# Altium footprint library LPSON_CON.PcbLib: 86 footprints (part 3 of 6)
Each footprint in its own frame and in the unit in brackets; x right, y up, seen from the top. Pads: shape width x height; smd on the part's side, far side on the other; paste and mask are expansions set on the pad; w line width, h text height; cw(c..) or ccw(c..) is an arc to the next point about the centre after c.
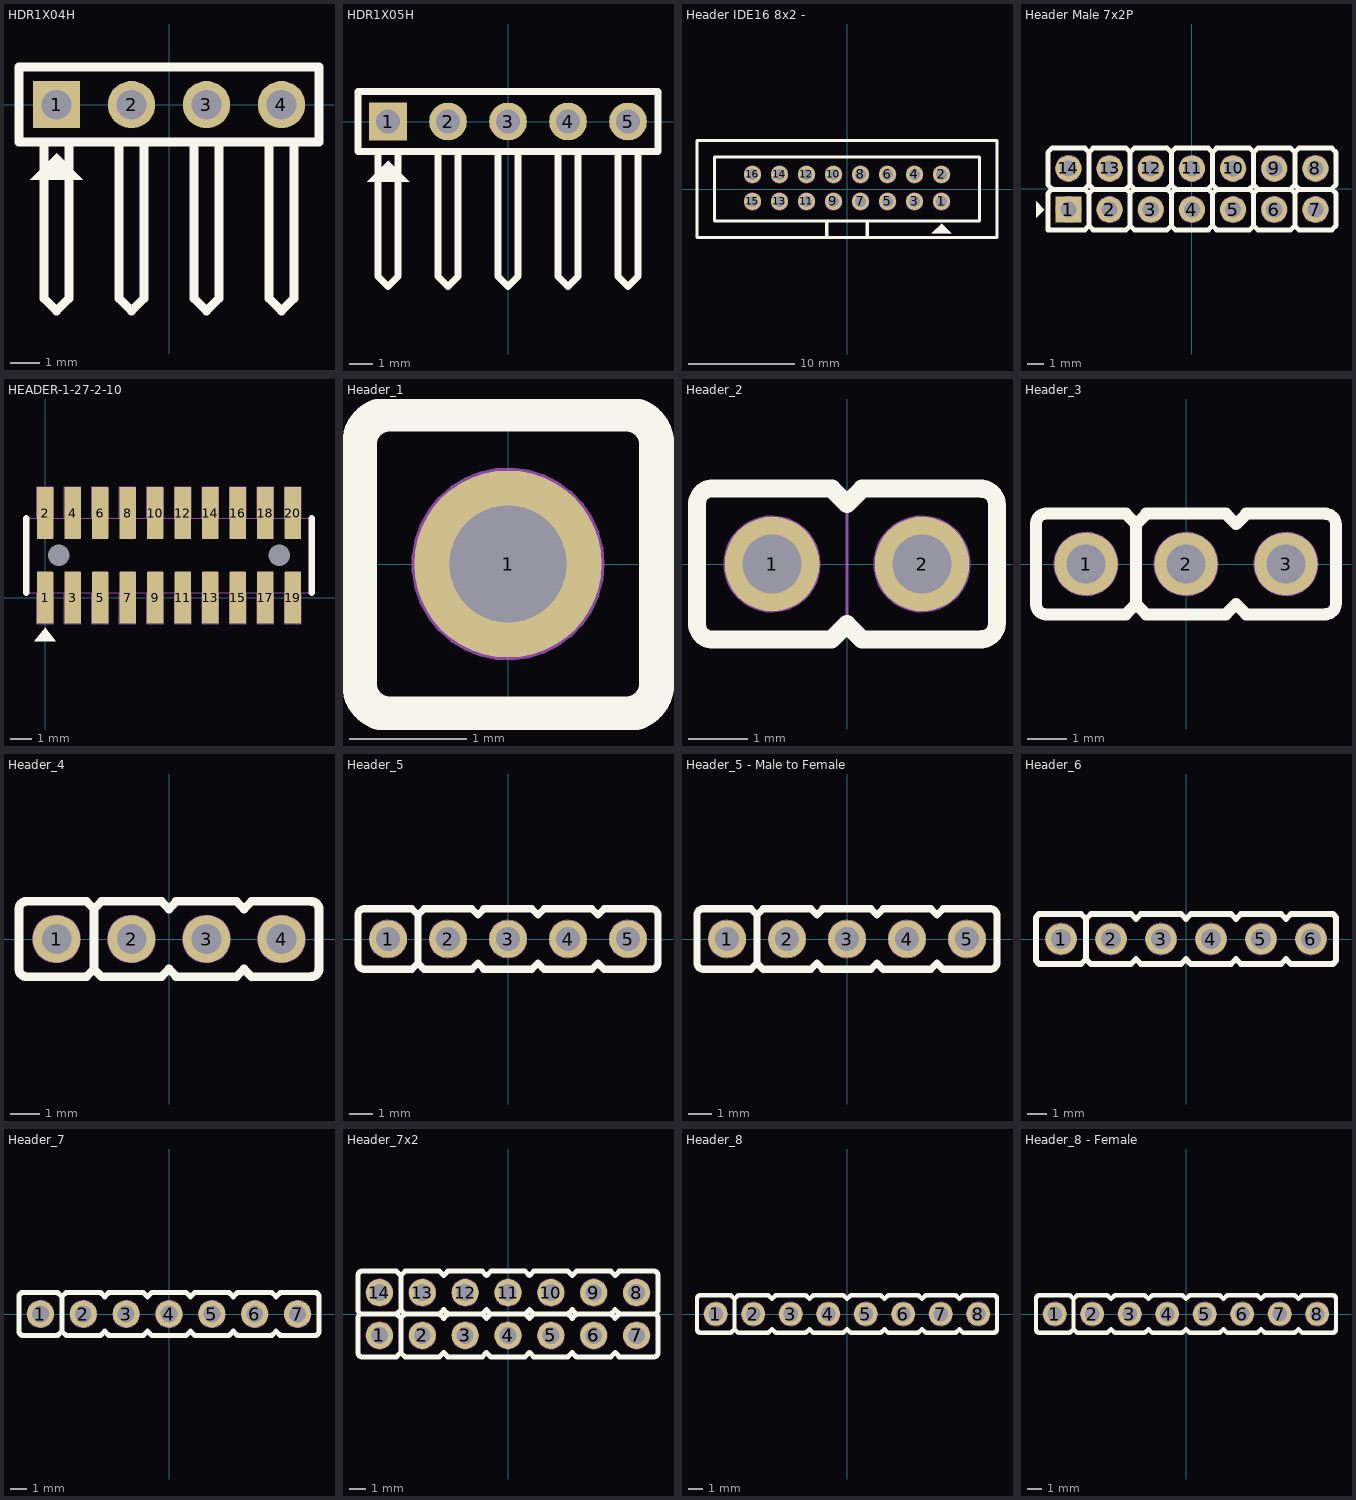
[diagram p2: the footprints below, top view; thin cyan lines are the x and y axes]

## HDR1X04H [mm] "Connector; Header; 4 Position; Right Angle"
height 6.5
pads (4):
  rect 1.6x1.6 hole 1 mask+0.1: 1(-3.81,0)
  round 1.6 hole 1 mask+0.1: 2(-1.27,0) 3(1.27,0) 4(3.81,0)
Top Overlay:
  region: -3.81,-1.651 -4.699,-2.54 -2.921,-2.54
  lines w0.3: -4.233,-1.27 -4.233,-6.562 -3.81,-6.985 -3.387,-6.562 -3.387,-1.27 ; -1.693,-1.27 -1.693,-6.562 -1.27,-6.985 -0.847,-6.562 -0.847,-1.27 ; 0.847,-1.27 0.847,-6.562 1.27,-6.985 1.693,-6.562 1.693,-1.27 ; 3.387,-1.27 3.387,-6.562 3.81,-6.985 4.233,-6.562 4.233,-1.27 ; -5.08,-1.27 -5.08,1.27 5.08,1.27 5.08,-1.27 -5.08,-1.27
Mechanical 1:
  region: -3.81,-1.651 -4.699,-2.54 -2.921,-2.54
  lines w0.05: -4.233,-1.27 -4.233,-6.562 -3.81,-6.985 -3.387,-6.562 -3.387,-1.27 ; -1.693,-1.27 -1.693,-6.562 -1.27,-6.985 -0.847,-6.562 -0.847,-1.27 ; 0.847,-1.27 0.847,-6.562 1.27,-6.985 1.693,-6.562 1.693,-1.27 ; 3.387,-1.27 3.387,-6.562 3.81,-6.985 4.233,-6.562 4.233,-1.27 ; -5.08,-1.27 5.08,-1.27 5.08,1.27 -5.08,1.27 -5.08,-1.27
3D body "User Library-0_1inch pin strip right angle.step": height 4.33, standoff -3, extent -5.08,-7 5.08,1.27

## HDR1X05H [mm] "Connector; Header; 5 Position; Right Angle"
height 6.5
pads (5):
  rect 1.6x1.6 hole 1 mask+0.1: 1(-5.08,0)
  round 1.6 hole 1 mask+0.1: 2(-2.54,0) 3(0,0) 4(2.54,0) 5(5.08,0)
Top Overlay:
  region: -5.08,-1.651 -5.969,-2.54 -4.191,-2.54
  lines w0.3: -5.503,-1.27 -5.503,-6.562 -5.08,-6.985 -4.657,-6.562 -4.657,-1.27 ; -2.963,-1.27 -2.963,-6.562 -2.54,-6.985 -2.117,-6.562 -2.117,-1.27 ; -0.423,-1.27 -0.423,-6.562 0,-6.985 0.423,-6.562 0.423,-1.27 ; 2.117,-1.27 2.117,-6.562 2.54,-6.985 2.963,-6.562 2.963,-1.27 ; 4.657,-1.27 4.657,-6.562 5.08,-6.985 5.503,-6.562 5.503,-1.27 ; -6.35,-1.27 6.35,-1.27 6.35,1.27 -6.35,1.27 -6.35,-1.27
Mechanical 1:
  region: -5.08,-1.651 -5.969,-2.54 -4.191,-2.54
  lines w0.05: -5.503,-1.27 -5.503,-6.562 -5.08,-6.985 -4.657,-6.562 -4.657,-1.27 ; -2.963,-1.27 -2.963,-6.562 -2.54,-6.985 -2.117,-6.562 -2.117,-1.27 ; -0.423,-1.27 -0.423,-6.562 0,-6.985 0.423,-6.562 0.423,-1.27 ; 2.117,-1.27 2.117,-6.562 2.54,-6.985 2.963,-6.562 2.963,-1.27 ; 4.657,-1.27 4.657,-6.562 5.08,-6.985 5.503,-6.562 5.503,-1.27 ; -6.35,-1.27 -6.35,1.27 6.35,1.27 6.35,-1.27 -6.35,-1.27
3D body "SW3dPS-0.1inch pin strip right angle.STEP": height 4.33, standoff -3, extent -6.35,-7 6.35,1.27

## Header IDE16 8x2 - [mm] "IDE16 Ð?c Th?ng 2.54MM"
height 9
pads (16):
  round 1.6 hole 1 mask+0.1: 1(8.89,-1.17) 2(8.89,1.37) 3(6.35,-1.17) 4(6.35,1.37) 5(3.81,-1.17) 6(3.81,1.37) 7(1.27,-1.17) 8(1.27,1.37) 9(-1.27,-1.17) 10(-1.27,1.37) 11(-3.81,-1.17) 12(-3.81,1.37) 13(-6.35,-1.17) 14(-6.35,1.37) 15(-8.89,-1.17) 16(-8.89,1.37)
Top Overlay:
  region: 8.89,-3.27 7.99,-4.17 9.79,-4.17
  lines w0.3: -1.9,-3 -1.9,-4.55 1.9,-4.55 1.9,-3 ; -14.11,-4.55 14.11,-4.55 14.11,4.55 -14.11,4.55 -14.11,-4.55 ; -12.46,-3 -12.46,3 12.46,3 12.46,-3 -12.46,-3
Mechanical 1:
  lines w0.05: -12.46,-3 12.46,-3 12.46,3 -12.46,3 -12.46,-3
Mechanical 2:
  circle w0.05: c-6.35,1.37 r0.8
  circle w0.05: c8.89,1.37 r0.8
  circle w0.05: c8.89,1.37 r0.8
  circle w0.05: c1.27,1.37 r0.8
  circle w0.05: c-8.89,1.37 r0.8
  circle w0.05: c-1.27,1.37 r0.8
  circle w0.05: c-3.81,1.37 r0.8
  circle w0.05: c6.35,1.37 r0.8
  circle w0.05: c3.81,1.37 r0.8
  circle w0.05: c3.81,-1.17 r0.8
  circle w0.05: c6.35,-1.17 r0.8
  circle w0.05: c-3.81,-1.17 r0.8
  circle w0.05: c-1.27,-1.17 r0.8
  circle w0.05: c-8.89,-1.17 r0.8
  circle w0.05: c1.27,-1.17 r0.8
  circle w0.05: c8.89,-1.17 r0.8
  circle w0.05: c8.89,-1.17 r0.8
  circle w0.05: c-6.35,-1.17 r0.8
  region: 8.89,-3.27 7.99,-4.17 9.79,-4.17
  lines w0.05: -1.9,-3.87 -1.9,-3 -1.9,-4.55 1.9,-4.55 1.9,-3 1.9,-3.87 ; -14.11,-4.55 14.11,-4.55 14.11,4.55 -14.11,4.55 -14.11,-4.55 ; -12.46,-3 -12.46,3 12.46,3 12.46,-3 -12.46,-3
  text "1" at 8.7,-1.7 h1.2
  text "16" at -9.3,0.9 h1.2
  text "15" at -9.4,-1.7 h1.2
  text "2" at 8.7,0.9 h1.2
3D body "2452410_1761681-6.stp": height 9, standoff -3.12, extent -13.97,-4.545 13.97,4.675

## Header Male 7x2P [mm] "Header Male 7x2P, 2.54 Pitch, THT"
pads (14):
  rect 1.6x1.6 hole 1 mask+0.1: 1(-7.62,-1.27)
  round 1.6 hole 1 mask+0.1: 2(-5.08,-1.27) 3(-2.54,-1.27) 4(0,-1.27) 5(2.54,-1.27) 6(5.08,-1.27) 7(7.62,-1.27) 8(7.62,1.27) 9(5.08,1.27) 10(2.54,1.27) 11(0,1.27) 12(-2.54,1.27) 13(-5.08,1.27) 14(-7.62,1.27)
Top Overlay:
  region: -9.12,-1.27 -9.62,-0.77 -9.62,-1.77
  lines w0.3: -8.64,0.02 -8.89,0.27 -8.89,2.27 -8.64,2.52 -6.6,2.52 -6.35,2.27 ; -6.6,0.02 -6.35,0.27 ; -6.1,0.02 -6.35,0.27 ; -4.06,0.02 -3.81,0.27 ; -3.56,0.02 -3.81,0.27 ; -1.52,0.02 -1.27,0.27 ; -1.02,0.02 -1.27,0.27 ; 1.02,0.02 1.27,0.27 ; 1.52,0.02 1.27,0.27 ; 3.56,0.02 3.81,0.27 ; 4.06,0.02 3.81,0.27 ; 6.1,0.02 6.35,0.27 ; 6.6,0.02 6.35,0.27 ; 8.64,0.02 8.89,0.27 8.89,2.27 8.64,2.52 6.6,2.52 6.35,2.27 ; -6.35,-2.27 -6.6,-2.52 -8.89,-2.52 -8.89,-0.27 -8.64,-0.02 -6.6,-0.02 -6.35,-0.27 ; -6.35,-2.27 -6.1,-2.52 -4.06,-2.52 -3.81,-2.27 ; -6.35,-2.27 -6.35,-0.27 ; -6.35,-0.27 -6.1,-0.02 -4.06,-0.02 -3.81,-0.27 ; -6.35,0.27 -6.35,2.27 ; -6.35,2.27 -6.1,2.52 -4.06,2.52 -3.81,2.27 ; -3.81,-2.27 -3.56,-2.52 -1.52,-2.52 -1.27,-2.27 ; -3.81,-2.27 -3.81,-0.27 ; -3.81,-0.27 -3.56,-0.02 -1.52,-0.02 -1.27,-0.27 ; -3.81,0.27 -3.81,2.27 ; -3.81,2.27 -3.56,2.52 -1.52,2.52 -1.27,2.27 ; -1.27,-2.27 -1.02,-2.52 1.02,-2.52 1.27,-2.27 ; -1.27,-2.27 -1.27,-0.27 ; -1.27,-0.27 -1.02,-0.02 1.02,-0.02 1.27,-0.27 ; -1.27,0.27 -1.27,2.27 ; -1.27,2.27 -1.02,2.52 1.02,2.52 1.27,2.27 ; 1.27,-2.27 1.52,-2.52 3.56,-2.52 3.81,-2.27 ; 1.27,-2.27 1.27,-0.27 ; 1.27,-0.27 1.52,-0.02 3.56,-0.02 3.81,-0.27 ; 1.27,0.27 1.27,2.27 ; 1.27,2.27 1.52,2.52 3.56,2.52 3.81,2.27 ; 3.81,-2.27 4.06,-2.52 6.1,-2.52 6.35,-2.27 ; 3.81,-2.27 3.81,-0.27 ; 3.81,-0.27 4.06,-0.02 6.1,-0.02 6.35,-0.27 ; 3.81,0.27 3.81,2.27 ; 3.81,2.27 4.06,2.52 6.1,2.52 6.35,2.27 ; 6.35,-2.27 6.35,-0.27 ; 6.35,-2.27 6.6,-2.52 8.64,-2.52 8.89,-2.27 8.89,-0.27 8.64,-0.02 6.6,-0.02 6.35,-0.27 ; 6.35,0.27 6.35,2.27
Mechanical 2:
  circle w0.05: c-2.54,-1.27 r0.8
  circle w0.05: c7.62,-1.27 r0.8
  circle w0.05: c-7.62,-1.27 r0.8
  circle w0.05: c-5.08,-1.27 r0.8
  circle w0.05: c2.54,-1.27 r0.8
  circle w0.05: c5.08,-1.27 r0.8
  circle w0.05: c0,-1.27 r0.8
  circle w0.05: c0,1.27 r0.8
  circle w0.05: c5.08,1.27 r0.8
  circle w0.05: c2.54,1.27 r0.8
  circle w0.05: c-5.08,1.27 r0.8
  circle w0.05: c-7.62,1.27 r0.8
  circle w0.05: c7.62,1.27 r0.8
  circle w0.05: c-2.54,1.27 r0.8
  lines w0.05: -1.54,0 -3.54,0 ; -1.52,-0.02 -1.27,-0.27 ; -1.52,0.02 -1.27,0.27 ; -1.02,-0.02 -1.27,-0.27 ; -1.02,0.02 -1.27,0.27 ; -1,0 1,0 ; -8.62,0 -8.89,-0.27 -8.89,-2.27 -8.64,-2.52 -6.6,-2.52 -6.35,-2.27 ; -8.62,0 -8.89,0.27 -8.89,2.27 -8.64,2.52 -6.6,2.52 -6.35,2.27 ; -8.62,0 -6.62,0 ; -6.62,0 -6.35,0.27 ; -6.62,0 -6.35,-0.27 ; -6.35,-2.27 -6.1,-2.52 -4.06,-2.52 -3.81,-2.27 ; -6.35,-2.27 -6.35,-0.27 ; -6.35,-0.27 -6.08,0 ; -6.35,0.27 -6.35,2.27 ; -6.35,0.27 -6.08,0 ; -6.35,2.27 -6.1,2.52 -4.06,2.52 -3.81,2.27 ; -6.08,0 -4.08,0 ; -4.08,0 -3.81,-0.27 ; -4.08,0 -3.81,0.27 ; -3.81,-2.27 -3.81,-0.27 ; -3.81,-2.27 -3.56,-2.52 -1.52,-2.52 -1.27,-2.27 ; -3.81,-0.27 -3.54,0 ; -3.81,0.27 -3.81,2.27 ; -3.81,0.27 -3.54,0 ; -3.81,2.27 -3.56,2.52 -1.52,2.52 -1.27,2.27 ; -1.27,-2.27 -1.02,-2.52 1.02,-2.52 1.27,-2.27 ; -1.27,-2.27 -1.27,-0.27 ; -1.27,0.27 -1.27,2.27 ; -1.27,2.27 -1.02,2.52 1.02,2.52 1.27,2.27 ; 1,0 1.27,0.27 ; 1,0 1.27,-0.27 ; 1.27,-2.27 1.52,-2.52 3.56,-2.52 3.81,-2.27 ; 1.27,-2.27 1.27,-0.27 ; 1.27,-0.27 1.54,0 ; 1.27,0.27 1.27,2.27 ; 1.27,0.27 1.54,0 ; 1.27,2.27 1.52,2.52 3.56,2.52 3.81,2.27 ; 1.54,0 3.54,0 ; 3.54,0 3.81,0.27 ; 3.54,0 3.81,-0.27 ; 3.81,-2.27 4.06,-2.52 6.1,-2.52 6.35,-2.27 ; 3.81,-2.27 3.81,-0.27 ; 3.81,-0.27 4.08,0 ; 3.81,0.27 3.81,2.27 ; 3.81,0.27 4.08,0 ; 3.81,2.27 4.06,2.52 6.1,2.52 6.35,2.27 ; 4.08,0 6.08,0 ; 6.08,0 6.35,0.27 ; 6.08,0 6.35,-0.27 ; 6.35,-2.27 6.35,-0.27 ; 6.35,-2.27 6.6,-2.52 8.64,-2.52 8.89,-2.27 8.89,-0.27 8.62,0 ; 6.35,-0.27 6.62,0 ; 6.35,0.27 6.35,2.27 ; 6.35,0.27 6.62,0 ; 6.35,2.27 6.6,2.52 8.64,2.52 8.89,2.27 8.89,0.27 8.62,0 ; 6.62,0 8.62,0
  text "2" at -5.347,-1.67 h0.8
  text "3" at -2.807,-1.67 h0.8
  text "4" at -0.267,-1.67 h0.8
  text "6" at 4.813,-1.67 h0.8
  text "7" at 7.353,-1.67 h0.8
  text "1" at -7.753,-1.67 h0.8
  text "5" at 2.273,-1.67 h0.8
  text "10" at 1.94,0.87 h0.8
  text "14" at -8.22,0.87 h0.8
  text "8" at 7.353,0.87 h0.8
  text "9" at 4.813,0.87 h0.8
  text "11" at -0.467,0.87 h0.8
  text "12" at -3.14,0.87 h0.8
  text "13" at -5.68,0.87 h0.8
3D body "User Library-Header_Male_7Pin.STEP": height 8.64, standoff -2.9, extent -8.89,-2.515 8.89,-0.025
3D body "User Library-Header_Male_7Pin.STEP": height 8.64, standoff -2.9, extent -8.89,0.025 8.89,2.515

## HEADER-1-27-2-10 [mm] "HEADER PIN TO PIN 1.27"
height 5.5
pads (22):
  rrect10% 0.76x2.4 smd mask+0.1: 1(0,0) 2(0,3.9) 3(1.27,0) 4(1.27,3.9) 5(2.54,0) 6(2.54,3.9) 7(3.81,0) 8(3.81,3.9) 9(5.08,0) 10(5.08,3.9) 11(6.35,0) 12(6.35,3.9) 13(7.62,0) 14(7.62,3.9) 15(8.89,0) 16(8.89,3.9) 17(10.16,0) 18(10.16,3.9) 19(11.43,0) 20(11.43,3.9)
  round 0 hole 1 mask+0.1: HOLE1(0.635,1.95) HOLE2(10.795,1.95)
Top Overlay:
  region: 0,-1.4 -0.5,-2 0.5,-2
  lines w0.3: -0.86,0.235 -0.86,3.665 ; 12.29,0.235 12.29,3.665
Mechanical 1:
  lines w0.05: -0.86,0.235 12.29,0.235 12.29,3.665 -0.86,3.665 -0.86,0.235 ; -0.38,-1.2 -0.38,0.235 0.38,0.235 0.38,-1.2 -0.38,-1.2 ; -0.38,3.665 -0.38,5.1 0.38,5.1 0.38,3.665 -0.38,3.665 ; 0.89,-1.2 1.65,-1.2 1.65,0.235 0.89,0.235 0.89,-1.2 ; 0.89,3.665 0.89,5.1 1.65,5.1 1.65,3.665 0.89,3.665 ; 2.16,-1.2 2.92,-1.2 2.92,0.235 2.16,0.235 2.16,-1.2 ; 2.16,3.665 2.92,3.665 2.92,5.1 2.16,5.1 2.16,3.665 ; 3.43,-1.2 4.19,-1.2 4.19,0.235 3.43,0.235 3.43,-1.2 ; 3.43,3.665 4.19,3.665 4.19,5.1 3.43,5.1 3.43,3.665 ; 4.7,-1.2 5.46,-1.2 5.46,0.235 4.7,0.235 4.7,-1.2 ; 4.7,3.665 5.46,3.665 5.46,5.1 4.7,5.1 4.7,3.665 ; 5.97,-1.2 5.97,0.235 6.73,0.235 6.73,-1.2 5.97,-1.2 ; 5.97,3.665 5.97,5.1 6.73,5.1 6.73,3.665 5.97,3.665 ; 7.24,-1.2 7.24,0.235 8,0.235 8,-1.2 7.24,-1.2 ; 7.24,3.665 7.24,5.1 8,5.1 8,3.665 7.24,3.665 ; 8.51,-1.2 8.51,0.235 9.27,0.235 9.27,-1.2 8.51,-1.2 ; 8.51,3.665 8.51,5.1 9.27,5.1 9.27,3.665 8.51,3.665 ; 9.78,-1.2 10.54,-1.2 10.54,0.235 9.78,0.235 9.78,-1.2 ; 9.78,3.665 9.78,5.1 10.54,5.1 10.54,3.665 9.78,3.665 ; 11.05,-1.2 11.81,-1.2 11.81,0.235 11.05,0.235 11.05,-1.2 ; 11.05,3.665 11.81,3.665 11.81,5.1 11.05,5.1 11.05,3.665
  text "19" at 11.1,-0.7 h0.4
  text "20" at 11.1,4.2 h0.4
  text "2" at -0.1,4.2 h0.4
  text "1" at 0,-0.7 h0.4
  text "HD?" at 3.759,1.467 h1

## Header_1 [mm] "Connector DIP, 1PIN"
height 5
pads (1):
  round 1.6 hole 1 mask+0.1: 1(0,0)
Top Overlay:
  lines w0.3: 1.006,-1.28 -1.03,-1.28 cw(c-1.01,-1.02) -1.27,-1 -1.27,1 cw(c-1.01,1.02) -1.03,1.28 1.016,1.28 ; 1.03,-1.28 ccw(c1.01,-1.02) 1.27,-1 1.27,1 ccw(c1.01,1.02) 1.03,1.28 ; 1.27,-1.026 1.27,-1.016
Mechanical 2:
  circle w0.05: c0,0 r0.8
  lines w0.05: 1.006,-1.28 -1.03,-1.28 cw(c-1.01,-1.02) -1.27,-1 -1.27,1 cw(c-1.01,1.02) -1.03,1.28 1.016,1.28 ; 1.03,-1.28 ccw(c1.01,-1.02) 1.27,-1 1.27,1 ccw(c1.01,1.02) 1.03,1.28 ; 1.27,-1.016 1.27,-1.026 1.27,1.016

## Header_2 [mm] "Connector DIP, 2Pin_2.54mm"
height 5
pads (2):
  round 1.6 hole 1 mask+0.1: 1(-1.27,0) 2(1.27,0)
Top Overlay:
  lines w0.3: -0.264,-1.28 -2.3,-1.28 cw(c-2.28,-1.02) -2.54,-1 -2.54,1 cw(c-2.28,1.02) -2.3,1.28 -0.254,1.28 ; -0.254,-1.27 0,-1.016 0,-1.026 0.254,-1.28 2.286,-1.28 2.286,-1.27 ; -0.254,1.27 0,1.016 0.254,1.27 ; 0.254,1.28 2.286,1.28 2.286,1.27 ; 2.26,-1.28 ccw(c2.26,-1) 2.54,-1 2.54,1 ccw(c2.26,1) 2.26,1.28
Mechanical 1:
  circle w0.05: c1.27,0 r0.8
  circle w0.05: c-1.27,0 r0.8
  lines w0.05: -0.264,-1.28 -2.3,-1.28 cw(c-2.28,-1.02) -2.54,-1 -2.54,1 cw(c-2.28,1.02) -2.3,1.28 -0.254,1.28 ; -0.254,-1.27 0,-1.016 0,-1.026 ; -0.254,1.27 0,1.016 ; 0.254,1.27 0,1.016 ; 0.254,1.28 2.286,1.28 2.286,1.27 ; 2.26,-1.28 ccw(c2.26,-1) 2.54,-1 2.54,1 ccw(c2.26,1) 2.26,1.28 ; 2.286,-1.27 2.286,-1.28 0.254,-1.28 0,-1.026 ; 0,-1.026 0,1.016
  text "1" at -1.524,-0.254 h1.2
  text "2" at 1.016,-0.254 h1.2
  text "HD?" at 0.05,0.05 h0.8
3D body "Header 1x2.STEP": height 10.1, standoff -1.5, extent -2.54,-1.27 2.54,1.27

## Header_3 [mm] "Connector DIP, 3Pin_2.54mm"
height 5
pads (3):
  round 1.6 hole 1 mask+0.1: 1(-2.54,0) 2(0,0) 3(2.54,0)
Top Overlay:
  lines w0.3: -1.524,-1.28 -1.524,-1.27 ; -1.524,1.27 -1.27,1.016 ; -1.524,1.28 -3.57,1.28 ccw(c-3.55,1.02) -3.81,1 -3.81,-1 ccw(c-3.55,-1.02) -3.57,-1.28 -1.534,-1.28 -1.524,-1.27 ; -1.016,1.27 -1.27,1.016 ; -1.016,1.28 1.016,1.28 ; 1.016,-1.28 -1.016,-1.28 -1.27,-1.026 -1.27,-1.016 ; 1.016,-1.27 1.27,-1.016 1.27,-1.026 1.524,-1.28 3.556,-1.28 3.556,-1.27 ; 1.016,1.27 1.27,1.016 1.524,1.27 ; 1.524,1.28 3.556,1.28 3.556,1.27 ; 3.53,-1.28 ccw(c3.53,-1) 3.81,-1 3.81,1 ccw(c3.53,1) 3.53,1.28 ; -1.524,-1.27 -1.27,-1.016 ; -1.27,-1.016 -1.27,1.016
Mechanical 2:
  circle w0.05: c-2.54,0 r0.8
  circle w0.05: c2.54,0 r0.8
  circle w0.05: c0,0 r0.8
  lines w0.05: -1.524,-1.28 -1.524,-1.27 ; -1.524,1.27 -1.27,1.016 ; -1.524,1.28 -3.57,1.28 ccw(c-3.55,1.02) -3.81,1 -3.81,-1 ccw(c-3.55,-1.02) -3.57,-1.28 -1.534,-1.28 -1.524,-1.27 ; -1.016,1.27 -1.27,1.016 ; -1.016,1.28 1.016,1.28 ; 1.016,-1.28 -1.016,-1.28 -1.27,-1.026 ; 1.016,-1.27 1.27,-1.016 1.27,-1.026 1.524,-1.28 3.556,-1.28 3.556,-1.27 ; 1.016,1.27 1.27,1.016 1.524,1.27 ; 1.524,1.28 3.556,1.28 3.556,1.27 ; 3.53,-1.28 ccw(c3.53,-1) 3.81,-1 3.81,1 ccw(c3.53,1) 3.53,1.28 ; -1.524,-1.27 -1.27,-1.016 -1.27,-1.026 ; -1.27,-1.026 -1.27,1.016
  text "1" at -2.794,-0.254 h1.2
  text "3" at 2.286,-0.254 h1.2
3D body "Header 1x3.STEP": height 10.1, standoff -1.5, extent -3.81,-1.27 3.81,1.27

## Header_4 [mm] "Connector DIP, 4Pin_2.54mm"
height 5
pads (4):
  round 1.6 hole 1 mask+0.1: 1(-3.81,0) 2(-1.27,0) 3(1.27,0) 4(3.81,0)
Top Overlay:
  lines w0.3: -2.794,-1.28 -2.794,-1.27 ; -2.794,1.27 -2.54,1.016 ; -2.794,1.28 -4.84,1.28 ccw(c-4.82,1.02) -5.08,1 -5.08,-1 ccw(c-4.82,-1.02) -4.84,-1.28 -2.804,-1.28 -2.794,-1.27 ; -2.286,1.27 -2.54,1.016 ; -2.286,1.28 -0.254,1.28 -0.254,1.27 0,1.016 0.254,1.27 ; 0.24,-1.28 2.276,-1.28 2.286,-1.27 ; 0.24,1.28 2.286,1.28 ; 0.254,-1.27 0,-1.016 -0.254,-1.27 -0.254,-1.28 -2.286,-1.28 -2.54,-1.026 ; 2.286,-1.28 2.286,-1.27 ; 2.286,1.27 2.54,1.016 2.794,1.27 ; 2.794,1.28 4.826,1.28 4.826,1.27 ; 4.8,-1.28 ccw(c4.8,-1) 5.08,-1 5.08,1 ccw(c4.8,1) 4.8,1.28 ; 4.826,-1.27 4.826,-1.28 2.794,-1.28 2.54,-1.026 2.54,-1.016 2.286,-1.27 ; -2.794,-1.27 -2.54,-1.016 -2.54,-1.026 ; -2.54,-1.026 -2.54,1.016
Mechanical 2:
  circle w0.05: c-1.27,0 r0.8
  circle w0.05: c3.81,0 r0.8
  circle w0.05: c1.27,0 r0.8
  circle w0.05: c-3.81,0 r0.8
  circle w0.05: c-3.81,0 r0.8
  lines w0.05: -2.794,-1.28 -2.794,-1.27 ; -2.794,1.27 -2.54,1.016 ; -2.794,1.28 -4.84,1.28 ccw(c-4.82,1.02) -5.08,1 -5.08,-1 ccw(c-4.82,-1.02) -4.84,-1.28 -2.804,-1.28 -2.794,-1.27 ; -2.286,1.27 -2.54,1.016 ; -2.286,1.28 -0.254,1.28 -0.254,1.27 0,1.016 0.254,1.27 ; 0.24,-1.28 2.276,-1.28 2.286,-1.27 ; 0.24,1.28 2.286,1.28 ; 0.254,-1.27 0,-1.016 -0.254,-1.27 -0.254,-1.28 -2.286,-1.28 -2.54,-1.026 -2.54,-1.016 ; 2.286,-1.28 2.286,-1.27 ; 2.286,1.27 2.54,1.016 2.794,1.27 ; 2.54,-1.026 2.794,-1.28 4.826,-1.28 4.826,-1.27 ; 2.54,-1.016 2.286,-1.27 ; 2.794,1.28 4.826,1.28 4.826,1.27 ; 4.8,-1.28 ccw(c4.8,-1) 5.08,-1 5.08,1 ccw(c4.8,1) 4.8,1.28 ; -2.794,-1.27 -2.54,-1.016 ; -2.54,-1.016 -2.54,1.016
  text "4" at 3.556,-0.254 h1.2
  text "1" at -4.064,-0.254 h1.2
3D body "Header 1x4.STEP": height 10.1, standoff -1.5, extent -5.08,-1.27 5.08,1.27

## Header_5 [mm] "Connector DIP, 5Pin_2.54mm"
height 5
pads (5):
  round 1.6 hole 1 mask+0.1: 1(-5.08,0) 2(-2.54,0) 3(0,0) 4(2.54,0) 5(5.08,0)
Top Overlay:
  lines w0.3: -4.064,-1.28 -4.064,-1.27 ; -4.064,1.27 -3.81,1.016 ; -4.064,1.28 -6.11,1.28 ccw(c-6.09,1.02) -6.35,1 -6.35,-1 ccw(c-6.09,-1.02) -6.11,-1.28 -4.074,-1.28 -4.064,-1.27 ; -3.556,1.27 -3.81,1.016 ; -3.556,1.28 -1.524,1.28 -1.524,1.27 -1.27,1.016 -1.016,1.27 ; -1.03,-1.28 1.006,-1.28 1.016,-1.27 ; -1.03,1.28 1.016,1.28 ; -1.016,-1.27 -1.27,-1.016 -1.524,-1.27 -1.524,-1.28 -3.556,-1.28 -3.81,-1.026 -3.81,-1.016 ; 1.016,-1.28 1.016,-1.27 ; 1.016,1.27 1.27,1.016 1.524,1.27 ; 1.524,1.28 3.556,1.28 ; 3.556,-1.28 1.524,-1.28 1.27,-1.026 1.27,-1.016 1.016,-1.27 ; 3.556,-1.27 3.81,-1.016 3.81,-1.026 4.064,-1.28 6.096,-1.28 6.096,-1.27 ; 3.556,1.27 3.81,1.016 4.064,1.27 ; 4.064,1.28 6.096,1.28 6.096,1.27 ; 6.07,-1.28 ccw(c6.07,-1) 6.35,-1 6.35,1 ccw(c6.07,1) 6.07,1.28 ; -4.064,-1.27 -3.81,-1.016 ; -3.81,-1.016 -3.81,1.016
Mechanical 2:
  circle w0.05: c0,0 r0.8
  circle w0.05: c2.54,0 r0.8
  circle w0.05: c-2.54,0 r0.8
  circle w0.05: c5.08,0 r0.8
  circle w0.05: c-5.08,0 r0.8
  circle w0.05: c-5.08,0 r0.8
  lines w0.05: -4.064,-1.28 -4.064,-1.27 ; -4.064,1.27 -3.81,1.016 ; -4.064,1.28 -6.11,1.28 ccw(c-6.09,1.02) -6.35,1 -6.35,-1 ccw(c-6.09,-1.02) -6.11,-1.28 -4.074,-1.28 -4.064,-1.27 ; -3.556,1.27 -3.81,1.016 ; -3.556,1.28 -1.524,1.28 -1.524,1.27 -1.27,1.016 -1.016,1.27 ; -1.03,-1.28 1.006,-1.28 1.016,-1.27 ; -1.03,1.28 1.016,1.28 ; -1.016,-1.27 -1.27,-1.016 -1.524,-1.27 -1.524,-1.28 -3.556,-1.28 -3.81,-1.026 -3.81,-1.016 ; 1.016,-1.28 1.016,-1.27 ; 1.016,1.27 1.27,1.016 1.524,1.27 ; 1.524,1.28 3.556,1.28 ; 3.556,-1.28 1.524,-1.28 1.27,-1.026 1.27,-1.016 1.016,-1.27 ; 3.556,-1.27 3.81,-1.016 3.81,-1.026 4.064,-1.28 6.096,-1.28 6.096,-1.27 ; 3.556,1.27 3.81,1.016 4.064,1.27 ; 4.064,1.28 6.096,1.28 6.096,1.27 ; 6.07,-1.28 ccw(c6.07,-1) 6.35,-1 6.35,1 ccw(c6.07,1) 6.07,1.28 ; -4.064,-1.27 -3.81,-1.016 ; -3.81,-1.016 -3.81,1.016
  text "5" at 4.826,-0.254 h1.2
  text "1" at -5.334,-0.254 h1.2
3D body "Header 1x5.STEP": height 10.1, standoff -1.5, extent -6.35,-1.27 6.35,1.27

## Header_5 - Male to Female [mm] "Connector DIP, Male to Female 5Pin_2.54mm"
height 5
pads (5):
  round 1.6 hole 1 mask+0.1: 1(-5.08,0) 2(-2.54,0) 3(0,0) 4(2.54,0) 5(5.08,0)
Top Overlay:
  lines w0.3: -4.064,-1.28 -4.064,-1.27 ; -4.064,1.27 -3.81,1.016 ; -4.064,1.28 -6.11,1.28 ccw(c-6.09,1.02) -6.35,1 -6.35,-1 ccw(c-6.09,-1.02) -6.11,-1.28 -4.074,-1.28 -4.064,-1.27 ; -3.556,1.27 -3.81,1.016 ; -3.556,1.28 -1.524,1.28 -1.524,1.27 -1.27,1.016 -1.016,1.27 ; -1.03,-1.28 1.006,-1.28 1.016,-1.27 ; -1.03,1.28 1.016,1.28 ; -1.016,-1.27 -1.27,-1.016 -1.524,-1.27 -1.524,-1.28 -3.556,-1.28 -3.81,-1.026 -3.81,-1.016 ; 1.016,-1.28 1.016,-1.27 ; 1.016,1.27 1.27,1.016 1.524,1.27 ; 1.524,1.28 3.556,1.28 ; 3.556,-1.28 1.524,-1.28 1.27,-1.026 1.27,-1.016 1.016,-1.27 ; 3.556,-1.27 3.81,-1.016 3.81,-1.026 4.064,-1.28 6.096,-1.28 6.096,-1.27 ; 3.556,1.27 3.81,1.016 4.064,1.27 ; 4.064,1.28 6.096,1.28 6.096,1.27 ; 6.07,-1.28 ccw(c6.07,-1) 6.35,-1 6.35,1 ccw(c6.07,1) 6.07,1.28 ; -4.064,-1.27 -3.81,-1.016 ; -3.81,-1.016 -3.81,1.016
Mechanical 1:
  circle w0.05: c-5.08,0 r0.8
  circle w0.05: c-5.08,0 r0.8
  circle w0.05: c-2.54,0 r0.8
  circle w0.05: c0,0 r0.8
  circle w0.05: c2.54,0 r0.8
  circle w0.05: c5.08,0 r0.8
  lines w0.05: -4.064,-1.28 -4.064,-1.27 ; -4.064,1.27 -3.81,1.016 ; -4.064,1.28 -6.11,1.28 ccw(c-6.09,1.02) -6.35,1 -6.35,-1 ccw(c-6.09,-1.02) -6.11,-1.28 -4.074,-1.28 -4.064,-1.27 ; -3.556,1.27 -3.81,1.016 ; -3.556,1.28 -1.524,1.28 -1.524,1.27 -1.27,1.016 -1.016,1.27 ; -1.03,-1.28 1.006,-1.28 1.016,-1.27 ; -1.03,1.28 1.016,1.28 ; -1.016,-1.27 -1.27,-1.016 -1.524,-1.27 -1.524,-1.28 -3.556,-1.28 -3.81,-1.026 -3.81,-1.016 ; 1.016,-1.28 1.016,-1.27 ; 1.016,1.27 1.27,1.016 1.524,1.27 ; 1.524,1.28 3.556,1.28 ; 3.556,-1.28 1.524,-1.28 1.27,-1.026 1.27,-1.016 1.016,-1.27 ; 3.556,-1.27 3.81,-1.016 3.81,-1.026 4.064,-1.28 6.096,-1.28 6.096,-1.27 ; 3.556,1.27 3.81,1.016 4.064,1.27 ; 4.064,1.28 6.096,1.28 6.096,1.27 ; 6.07,-1.28 ccw(c6.07,-1) 6.35,-1 6.35,1 ccw(c6.07,1) 6.07,1.28 ; -4.064,-1.27 -3.81,-1.016 ; -3.81,-1.016 -3.81,1.016
  text "HD?" at 0.05,0.05 h0.8
  text "5" at 4.826,-0.254 h1.2
  text "1" at -5.334,-0.254 h1.2
3D body "Header 1x5.STEP": height 1.5, standoff -10.1, extent -6.35,-1.27 6.35,1.27
3D body "female_header_a-bl254-eg-g05d.stp": height 8.5, standoff -3.2, extent -6.475,-1.25 6.475,1.25

## Header_6 [mm] "Connector DIP Male, 6Pin_2.54mm"
height 5
pads (6):
  round 1.6 hole 1 mask+0.1: 1(-6.35,0) 2(-3.81,0) 3(-1.27,0) 4(1.27,0) 5(3.81,0) 6(6.35,0)
Top Overlay:
  lines w0.3: -5.334,-1.28 -5.334,-1.27 ; -5.334,1.27 -5.08,1.016 ; -5.334,1.28 -7.38,1.28 ccw(c-7.36,1.02) -7.62,1 -7.62,-1 ccw(c-7.36,-1.02) -7.38,-1.28 -5.344,-1.28 -5.334,-1.27 ; -4.826,1.27 -5.08,1.016 ; -4.826,1.28 -2.794,1.28 -2.794,1.27 -2.54,1.016 -2.286,1.27 ; -2.3,-1.28 -0.264,-1.28 -0.254,-1.27 ; -2.3,1.28 -0.254,1.28 ; -2.286,-1.27 -2.54,-1.016 -2.794,-1.27 -2.794,-1.28 -4.826,-1.28 -5.08,-1.026 ; -0.254,-1.28 -0.254,-1.27 ; -0.254,1.27 0,1.016 0.254,1.27 ; 0.254,1.28 2.286,1.28 2.286,1.27 2.54,1.016 2.794,1.27 ; 2.78,-1.28 4.816,-1.28 4.826,-1.27 ; 2.78,1.28 4.826,1.28 ; 2.794,-1.27 2.54,-1.016 2.286,-1.27 2.286,-1.28 0.254,-1.28 0,-1.026 0,-1.016 -0.254,-1.27 ; 4.826,-1.28 4.826,-1.27 ; 4.826,1.27 5.08,1.016 5.334,1.27 ; 5.334,1.28 7.366,1.28 ; 7.366,-1.28 5.334,-1.28 5.08,-1.026 5.08,-1.016 4.826,-1.27 ; 7.38,-1.28 ccw(c7.36,-1.02) 7.62,-1 7.62,1 ccw(c7.36,1.02) 7.38,1.28 ; -5.334,-1.27 -5.08,-1.016 -5.08,-1.026 ; -5.08,-1.026 -5.08,1.016
Mechanical 1:
  circle w0.05: c6.35,0 r0.8
  circle w0.05: c3.81,0 r0.8
  circle w0.05: c1.27,0 r0.8
  circle w0.05: c-1.27,0 r0.8
  circle w0.05: c-3.81,0 r0.8
  circle w0.05: c-6.35,0 r0.8
  circle w0.05: c-6.35,0 r0.8
  lines w0.05: -5.334,-1.28 -5.334,-1.27 ; -5.334,1.27 -5.08,1.016 ; -5.334,1.28 -7.38,1.28 ccw(c-7.36,1.02) -7.62,1 -7.62,-1 ccw(c-7.36,-1.02) -7.38,-1.28 -5.344,-1.28 -5.334,-1.27 ; -4.826,1.27 -5.08,1.016 ; -4.826,1.28 -2.794,1.28 -2.794,1.27 -2.54,1.016 -2.286,1.27 ; -2.3,-1.28 -0.264,-1.28 -0.254,-1.27 ; -2.3,1.28 -0.254,1.28 ; -2.286,-1.27 -2.54,-1.016 -2.794,-1.27 -2.794,-1.28 -4.826,-1.28 -5.08,-1.026 -5.08,-1.016 ; -0.254,-1.28 -0.254,-1.27 ; -0.254,1.27 0,1.016 0.254,1.27 ; 0.254,1.28 2.286,1.28 2.286,1.27 2.54,1.016 2.794,1.27 ; 2.78,-1.28 4.816,-1.28 4.826,-1.27 ; 2.78,1.28 4.826,1.28 ; 2.794,-1.27 2.54,-1.016 2.286,-1.27 2.286,-1.28 0.254,-1.28 0,-1.026 0,-1.016 -0.254,-1.27 ; 4.826,-1.28 4.826,-1.27 ; 4.826,1.27 5.08,1.016 5.334,1.27 ; 5.334,1.28 7.366,1.28 ; 7.366,-1.28 5.334,-1.28 5.08,-1.026 5.08,-1.016 4.826,-1.27 ; 7.38,-1.28 ccw(c7.36,-1.02) 7.62,-1 7.62,1 ccw(c7.36,1.02) 7.38,1.28 ; -5.334,-1.27 -5.08,-1.016 ; -5.08,-1.016 -5.08,1.016
  text "HD?" at 0.05,0.05 h0.8
  text "1" at -6.6,-0.4 h1
  text "6" at 6.1,-0.4 h1
3D body "Header 1x6.STEP": height 10.1, standoff -1.5, extent -7.62,-1.27 7.62,1.27

## Header_7 [mm] "Connector DIP Male, 7Pin_2.54mm"
height 5
pads (7):
  round 1.6 hole 1 mask+0.1: 1(-7.62,0) 2(-5.08,0) 3(-2.54,0) 4(0,0) 5(2.54,0) 6(5.08,0) 7(7.62,0)
Top Overlay:
  lines w0.3: -6.604,-1.28 -6.604,-1.27 ; -6.604,1.27 -6.35,1.016 ; -6.604,1.28 -8.65,1.28 ccw(c-8.63,1.02) -8.89,1 -8.89,-1 ccw(c-8.63,-1.02) -8.65,-1.28 -6.614,-1.28 -6.604,-1.27 ; -6.096,1.27 -6.35,1.016 ; -6.096,1.28 -4.064,1.28 -4.064,1.27 -3.81,1.016 -3.556,1.27 ; -3.57,-1.28 -1.534,-1.28 -1.524,-1.27 ; -3.57,1.28 -1.524,1.28 ; -3.556,-1.27 -3.81,-1.016 -4.064,-1.27 -4.064,-1.28 -6.096,-1.28 -6.35,-1.026 ; -1.524,-1.28 -1.524,-1.27 ; -1.524,1.27 -1.27,1.016 -1.016,1.27 ; -1.016,1.28 1.016,1.28 1.016,1.27 1.27,1.016 1.524,1.27 ; 1.51,-1.28 3.546,-1.28 3.556,-1.27 ; 1.51,1.28 3.556,1.28 ; 1.524,-1.27 1.27,-1.016 1.016,-1.27 1.016,-1.28 -1.016,-1.28 -1.27,-1.026 -1.27,-1.016 -1.524,-1.27 ; 3.556,-1.28 3.556,-1.27 ; 3.556,1.27 3.81,1.016 4.064,1.27 ; 4.064,1.28 6.096,1.28 6.096,1.27 6.35,1.016 6.604,1.27 ; 6.59,-1.28 8.626,-1.28 ; 6.59,1.28 8.636,1.28 ; 6.604,-1.27 6.35,-1.016 6.096,-1.27 6.096,-1.28 4.064,-1.28 3.81,-1.026 3.81,-1.016 3.556,-1.27 ; 8.65,-1.28 ccw(c8.63,-1.02) 8.89,-1 8.89,1 ccw(c8.63,1.02) 8.65,1.28 ; -6.604,-1.27 -6.35,-1.016 -6.35,-1.026 ; -6.35,-1.026 -6.35,1.016
Mechanical 1:
  circle w0.05: c-7.62,0 r0.8
  circle w0.05: c-7.62,0 r0.8
  circle w0.05: c-5.08,0 r0.8
  circle w0.05: c-2.54,0 r0.8
  circle w0.05: c0,0 r0.8
  circle w0.05: c2.54,0 r0.8
  circle w0.05: c5.08,0 r0.8
  circle w0.05: c7.62,0 r0.8
  lines w0.05: -6.604,-1.28 -6.604,-1.27 ; -6.604,1.27 -6.35,1.016 ; -6.604,1.28 -8.65,1.28 ccw(c-8.63,1.02) -8.89,1 -8.89,-1 ccw(c-8.63,-1.02) -8.65,-1.28 -6.614,-1.28 -6.604,-1.27 ; -6.096,1.27 -6.35,1.016 ; -6.096,1.28 -4.064,1.28 -4.064,1.27 -3.81,1.016 -3.556,1.27 ; -3.57,-1.28 -1.534,-1.28 -1.524,-1.27 ; -3.57,1.28 -1.524,1.28 ; -3.556,-1.27 -3.81,-1.016 -4.064,-1.27 -4.064,-1.28 -6.096,-1.28 -6.35,-1.026 ; -1.524,-1.28 -1.524,-1.27 ; -1.524,1.27 -1.27,1.016 -1.016,1.27 ; -1.016,1.28 1.016,1.28 1.016,1.27 1.27,1.016 1.524,1.27 ; 1.51,-1.28 3.546,-1.28 3.556,-1.27 ; 1.51,1.28 3.556,1.28 ; 1.524,-1.27 1.27,-1.016 1.016,-1.27 1.016,-1.28 -1.016,-1.28 -1.27,-1.026 -1.27,-1.016 -1.524,-1.27 ; 3.556,-1.28 3.556,-1.27 ; 3.556,1.27 3.81,1.016 4.064,1.27 ; 4.064,1.28 6.096,1.28 6.096,1.27 6.35,1.016 6.604,1.27 ; 6.59,-1.28 8.626,-1.28 ; 6.59,1.28 8.636,1.28 ; 6.604,-1.27 6.35,-1.016 6.096,-1.27 6.096,-1.28 4.064,-1.28 3.81,-1.026 3.81,-1.016 3.556,-1.27 ; 8.65,-1.28 ccw(c8.63,-1.02) 8.89,-1 8.89,1 ccw(c8.63,1.02) 8.65,1.28 ; -6.604,-1.27 -6.35,-1.016 -6.35,-1.026 ; -6.35,-1.026 -6.35,1.016
  text "7" at 7.45,-0.4 h1.2
  text "1" at -7.8,-0.4 h1.2
  text "HD?" at 0.05,0.05 h0.8
3D body "Header 1x7.STEP": height 10.1, standoff -1.5, extent -8.89,-1.27 8.89,1.27

## Header_7x2 [mm] "Connector DIP Male, 14Pin_2.54mm"
height 5
pads (21):
  round 1.6 hole 1 mask+0.1: 1(-7.62,-1.27) 1(-7.62,-1.27) 2(-5.08,-1.27) 2(-5.08,-1.27) 3(-2.54,-1.27) 3(-2.54,-1.27) 4(0,-1.27) 4(0,-1.27) 5(2.54,-1.27) 5(2.54,-1.27) 6(5.08,-1.27) 6(5.08,-1.27) 7(7.62,-1.27) 7(7.62,-1.27) 8(7.62,1.27) 9(5.08,1.27) 10(2.54,1.27) 11(0,1.27) 12(-2.54,1.27) 13(-5.08,1.27) 14(-7.62,1.27)
Top Overlay:
  drawing of 180 lines, arcs and shapes, not listed
Mechanical 2:
  drawing of 204 lines, arcs and shapes, not listed
  text "14" at -8.1,0.9 h1.2
  text "8" at 7.45,0.87 h1.2
  text "1" at -7.8,-1.67 h1.2
  text "7" at 7.45,-1.67 h1.2
  text "7" at 7.45,-1.67 h1.2
  text "1" at -7.8,-1.67 h1.2
3D body "Header 1x7.STEP": height 10.1, standoff -1.5, extent -8.89,0 8.89,2.54
3D body "Header 1x7.STEP": height 10.1, standoff -1.5, extent -8.89,-2.54 8.89,0
3D body "Header 1x7.STEP": height 10.1, standoff -1.5, extent -8.89,-2.54 8.89,0

## Header_8 [mm] "Connector DIP Male, 8Pin_2.54mm"
height 5
pads (8):
  round 1.6 hole 1 mask+0.1: 1(-8.89,0) 2(-6.35,0) 3(-3.81,0) 4(-1.27,0) 5(1.27,0) 6(3.81,0) 7(6.35,0) 8(8.89,0)
Top Overlay:
  lines w0.3: -7.874,-1.28 -7.874,-1.27 ; -7.874,1.27 -7.62,1.016 ; -7.874,1.28 -9.92,1.28 ccw(c-9.9,1.02) -10.16,1 -10.16,-1 ccw(c-9.9,-1.02) -9.92,-1.28 -7.884,-1.28 -7.874,-1.27 ; -7.366,1.27 -7.62,1.016 ; -7.366,1.28 -5.334,1.28 -5.334,1.27 -5.08,1.016 -4.826,1.27 ; -4.84,-1.28 -2.804,-1.28 -2.794,-1.27 ; -4.84,1.28 -2.794,1.28 ; -4.826,-1.27 -5.08,-1.016 -5.334,-1.27 -5.334,-1.28 -7.366,-1.28 -7.62,-1.026 ; -2.794,-1.28 -2.794,-1.27 ; -2.794,1.27 -2.54,1.016 -2.286,1.27 ; -2.286,1.28 -0.254,1.28 -0.254,1.27 0,1.016 0.254,1.27 ; 0.24,-1.28 2.276,-1.28 2.286,-1.27 ; 0.24,1.28 2.286,1.28 ; 0.254,-1.27 0,-1.016 -0.254,-1.27 -0.254,-1.28 -2.286,-1.28 -2.54,-1.026 -2.54,-1.016 -2.794,-1.27 ; 2.286,-1.28 2.286,-1.27 ; 2.286,1.27 2.54,1.016 2.794,1.27 ; 2.794,1.28 4.826,1.28 4.826,1.27 5.08,1.016 5.334,1.27 ; 5.32,-1.28 7.356,-1.28 7.366,-1.27 ; 5.32,1.28 7.366,1.28 ; 5.334,-1.27 5.08,-1.016 4.826,-1.27 4.826,-1.28 2.794,-1.28 2.54,-1.026 2.54,-1.016 2.286,-1.27 ; 7.366,-1.28 7.366,-1.27 ; 7.366,1.27 7.62,1.016 7.874,1.27 ; 7.874,1.28 9.906,1.28 ; 9.906,-1.28 7.874,-1.28 7.62,-1.026 7.62,-1.016 7.366,-1.27 ; 9.92,-1.28 ccw(c9.9,-1.02) 10.16,-1 10.16,1 ccw(c9.9,1.02) 9.92,1.28 ; -7.874,-1.27 -7.62,-1.016 -7.62,-1.026 ; -7.62,-1.026 -7.62,1.016
Mechanical 2:
  circle w0.05: c6.35,0 r0.8
  circle w0.05: c-8.89,0 r0.8
  circle w0.05: c-8.89,0 r0.8
  circle w0.05: c-1.27,0 r0.8
  circle w0.05: c8.89,0 r0.8
  circle w0.05: c1.27,0 r0.8
  circle w0.05: c3.81,0 r0.8
  circle w0.05: c-6.35,0 r0.8
  circle w0.05: c-3.81,0 r0.8
  lines w0.05: -7.874,-1.28 -7.874,-1.27 ; -7.874,1.27 -7.62,1.016 ; -7.874,1.28 -9.92,1.28 ccw(c-9.9,1.02) -10.16,1 -10.16,-1 ccw(c-9.9,-1.02) -9.92,-1.28 -7.884,-1.28 -7.874,-1.27 ; -7.366,1.27 -7.62,1.016 ; -7.366,1.28 -5.334,1.28 -5.334,1.27 -5.08,1.016 -4.826,1.27 ; -4.84,-1.28 -2.804,-1.28 -2.794,-1.27 ; -4.84,1.28 -2.794,1.28 ; -4.826,-1.27 -5.08,-1.016 -5.334,-1.27 -5.334,-1.28 -7.366,-1.28 -7.62,-1.026 -7.62,-1.016 ; -2.794,-1.28 -2.794,-1.27 ; -2.794,1.27 -2.54,1.016 -2.286,1.27 ; -2.286,1.28 -0.254,1.28 -0.254,1.27 0,1.016 0.254,1.27 ; 0.24,-1.28 2.276,-1.28 2.286,-1.27 ; 0.24,1.28 2.286,1.28 ; 0.254,-1.27 0,-1.016 -0.254,-1.27 -0.254,-1.28 -2.286,-1.28 -2.54,-1.026 -2.54,-1.016 -2.794,-1.27 ; 2.286,-1.28 2.286,-1.27 ; 2.286,1.27 2.54,1.016 2.794,1.27 ; 2.794,1.28 4.826,1.28 4.826,1.27 5.08,1.016 5.334,1.27 ; 5.32,-1.28 7.356,-1.28 7.366,-1.27 ; 5.32,1.28 7.366,1.28 ; 5.334,-1.27 5.08,-1.016 4.826,-1.27 4.826,-1.28 2.794,-1.28 2.54,-1.026 2.54,-1.016 2.286,-1.27 ; 7.366,-1.28 7.366,-1.27 ; 7.366,1.27 7.62,1.016 7.874,1.27 ; 7.874,1.28 9.906,1.28 ; 9.906,-1.28 7.874,-1.28 7.62,-1.026 7.62,-1.016 7.366,-1.27 ; 9.92,-1.28 ccw(c9.9,-1.02) 10.16,-1 10.16,1 ccw(c9.9,1.02) 9.92,1.28 ; -7.874,-1.27 -7.62,-1.016 ; -7.62,-1.016 -7.62,1.016
  text "8" at 8.6,-0.4 h1.2
  text "1" at -9.1,-0.4 h1.2
3D body "Header 1x8.STEP": height 10.1, standoff -1.5, extent -10.16,-1.27 10.16,1.27

## Header_8 - Female [mm] "Connector DIP FeMale, 8Pin_2.54mm"
height 5
pads (8):
  round 1.6 hole 1 mask+0.1: 1(-8.89,0) 2(-6.35,0) 3(-3.81,0) 4(-1.27,0) 5(1.27,0) 6(3.81,0) 7(6.35,0) 8(8.89,0)
Top Overlay:
  lines w0.3: -7.874,-1.28 -7.874,-1.27 ; -7.874,1.27 -7.62,1.016 ; -7.874,1.28 -9.92,1.28 ccw(c-9.9,1.02) -10.16,1 -10.16,-1 ccw(c-9.9,-1.02) -9.92,-1.28 -7.884,-1.28 -7.874,-1.27 ; -7.366,1.27 -7.62,1.016 ; -7.366,1.28 -5.334,1.28 -5.334,1.27 -5.08,1.016 -4.826,1.27 ; -4.84,-1.28 -2.804,-1.28 -2.794,-1.27 ; -4.84,1.28 -2.794,1.28 ; -4.826,-1.27 -5.08,-1.016 -5.334,-1.27 -5.334,-1.28 -7.366,-1.28 -7.62,-1.026 ; -2.794,-1.28 -2.794,-1.27 ; -2.794,1.27 -2.54,1.016 -2.286,1.27 ; -2.286,1.28 -0.254,1.28 -0.254,1.27 0,1.016 0.254,1.27 ; 0.24,-1.28 2.276,-1.28 2.286,-1.27 ; 0.24,1.28 2.286,1.28 ; 0.254,-1.27 0,-1.016 -0.254,-1.27 -0.254,-1.28 -2.286,-1.28 -2.54,-1.026 -2.54,-1.016 -2.794,-1.27 ; 2.286,-1.28 2.286,-1.27 ; 2.286,1.27 2.54,1.016 2.794,1.27 ; 2.794,1.28 4.826,1.28 4.826,1.27 5.08,1.016 5.334,1.27 ; 5.32,-1.28 7.356,-1.28 7.366,-1.27 ; 5.32,1.28 7.366,1.28 ; 5.334,-1.27 5.08,-1.016 4.826,-1.27 4.826,-1.28 2.794,-1.28 2.54,-1.026 2.54,-1.016 2.286,-1.27 ; 7.366,-1.28 7.366,-1.27 ; 7.366,1.27 7.62,1.016 7.874,1.27 ; 7.874,1.28 9.906,1.28 ; 9.906,-1.28 7.874,-1.28 7.62,-1.026 7.62,-1.016 7.366,-1.27 ; 9.92,-1.28 ccw(c9.9,-1.02) 10.16,-1 10.16,1 ccw(c9.9,1.02) 9.92,1.28 ; -7.874,-1.27 -7.62,-1.016 -7.62,-1.026 ; -7.62,-1.026 -7.62,1.016
Mechanical 1:
  circle w0.05: c8.89,0 r0.8
  circle w0.05: c6.35,0 r0.8
  circle w0.05: c3.81,0 r0.8
  circle w0.05: c1.27,0 r0.8
  circle w0.05: c-1.27,0 r0.8
  circle w0.05: c-3.81,0 r0.8
  circle w0.05: c-6.35,0 r0.8
  circle w0.05: c-8.89,0 r0.8
  circle w0.05: c-8.89,0 r0.8
  lines w0.05: -7.874,-1.28 -7.874,-1.27 ; -7.874,1.27 -7.62,1.016 ; -7.874,1.28 -9.92,1.28 ccw(c-9.9,1.02) -10.16,1 -10.16,-1 ccw(c-9.9,-1.02) -9.92,-1.28 -7.884,-1.28 -7.874,-1.27 ; -7.366,1.27 -7.62,1.016 ; -7.366,1.28 -5.334,1.28 -5.334,1.27 -5.08,1.016 -4.826,1.27 ; -4.84,-1.28 -2.804,-1.28 -2.794,-1.27 ; -4.84,1.28 -2.794,1.28 ; -4.826,-1.27 -5.08,-1.016 -5.334,-1.27 -5.334,-1.28 -7.366,-1.28 -7.62,-1.026 -7.62,-1.016 ; -2.794,-1.28 -2.794,-1.27 ; -2.794,1.27 -2.54,1.016 -2.286,1.27 ; -2.286,1.28 -0.254,1.28 -0.254,1.27 0,1.016 0.254,1.27 ; 0.24,-1.28 2.276,-1.28 2.286,-1.27 ; 0.24,1.28 2.286,1.28 ; 0.254,-1.27 0,-1.016 -0.254,-1.27 -0.254,-1.28 -2.286,-1.28 -2.54,-1.026 -2.54,-1.016 -2.794,-1.27 ; 2.286,-1.28 2.286,-1.27 ; 2.286,1.27 2.54,1.016 2.794,1.27 ; 2.794,1.28 4.826,1.28 4.826,1.27 5.08,1.016 5.334,1.27 ; 5.32,-1.28 7.356,-1.28 7.366,-1.27 ; 5.32,1.28 7.366,1.28 ; 5.334,-1.27 5.08,-1.016 4.826,-1.27 4.826,-1.28 2.794,-1.28 2.54,-1.026 2.54,-1.016 2.286,-1.27 ; 7.366,-1.28 7.366,-1.27 ; 7.366,1.27 7.62,1.016 7.874,1.27 ; 7.874,1.28 9.906,1.28 ; 9.906,-1.28 7.874,-1.28 7.62,-1.026 7.62,-1.016 7.366,-1.27 ; 9.92,-1.28 ccw(c9.9,-1.02) 10.16,-1 10.16,1 ccw(c9.9,1.02) 9.92,1.28 ; -7.874,-1.27 -7.62,-1.016 ; -7.62,-1.016 -7.62,1.016
  text "HD?" at 0,0.1 h0.8
  text "8" at 8.6,-0.4 h1.2
  text "1" at -9.1,-0.4 h1.2
3D body "female_header_a-bl254-eg-g08d.stp": height 8.5, standoff -3.2, extent -10.285,-1.25 10.285,1.25